# Altium schematic symbol library Relay.SchLib: 7 symbols
Pins are listed as number, name and electrical type; pins without a type are passive.

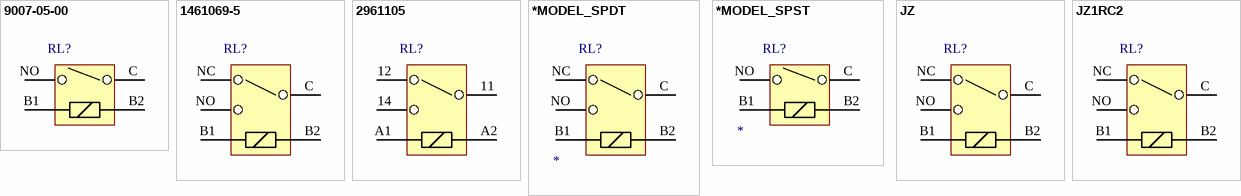
[diagram p0: symbols 9007-05-00 to JZ1RC2]

## 9007-05-00
designator RL?  (value not drawn)
RELAY REED SPST 500MA 5V; Manufacturer: Coto Technology; Action: Momentary; Mount Type: PTH; Circuit: SPST; Supplier 1: Mouser; Supplier 2: Farnell; Supplier 3: Digi-Key; Supplier 4: Newark; Supplier Part Number 1: 816-9007-05-00; Supplier Part Number 2: 1081682; Supplier Part Number 3: 306-1062-ND; Supplier Part Number 4: 62K1784
footprint 9000 Series
pins: B1, B2, C, NO

## 1461069-5
designator RL?  (value not drawn)
RELAY GEN PURPOSE SPDT 10A 12V; Manufacturer: TE Connectivity Potter & Brumfield Relays; Action: Momentary; Mount Type: PTH; Circuit: SPDT
footprint RELE SPDT
pins: B1, B2, C, NC, NO

## 2961105
designator RL?  (value not drawn)
RELAY GEN PURPOSE SPDT 6A 24V; Manufacturer: Phoenixcontact; Action: Active; Mount Type: Through Hole; Circuit: SPDT; Supplier 1: Newark; Supplier Part Number 1: 89W0410; Supplier 2: Allied; Supplier Part Number 2: 70207754; Supplier 3: Farnell; Supplier Part Number 3: 2315534; Supplier 4: Digi-Key; Supplier Part Number 4: 277-2388-ND
footprint 2961105
pins: 11, 12, 14, A1, A2

## *MODEL_SPDT
designator RL?, comment Part Number  (value not drawn)
Description; Circuit: SPDT; Manufacturer: *; Mount Type: *; Action: *; Value: *
pins: B1, B2, C, NC, NO

## *MODEL_SPST
designator RL?, comment Part Number  (value not drawn)
Description; Circuit: SPST; Manufacturer: *; Mount Type: *; Action: *; Value: *
pins: B1, B2, C, NO

## JZ
designator RL?  (value not drawn)
MINI POWER RELAY 12V 250VAC 6A; Manufacturer: Metaltex; Action: Momentary; Circuit: SPDT; Mount Type: PTH
footprint JZ SERIES
pins: B1, B2, C, NC, NO

## JZ1RC2
designator RL?  (value not drawn)
MINI POWER RELAY 12V 250VAC 6A; Manufacturer: Metaltex; Action: Momentary; Circuit: SPDT; Mount Type: PTH
footprint JZ SERIES
pins: B1, B2, C, NC, NO